# Altium schematic symbol library ZabugorLib.SchLib: 61 symbols
Pins are listed as number, name and electrical type; pins without a type are passive.

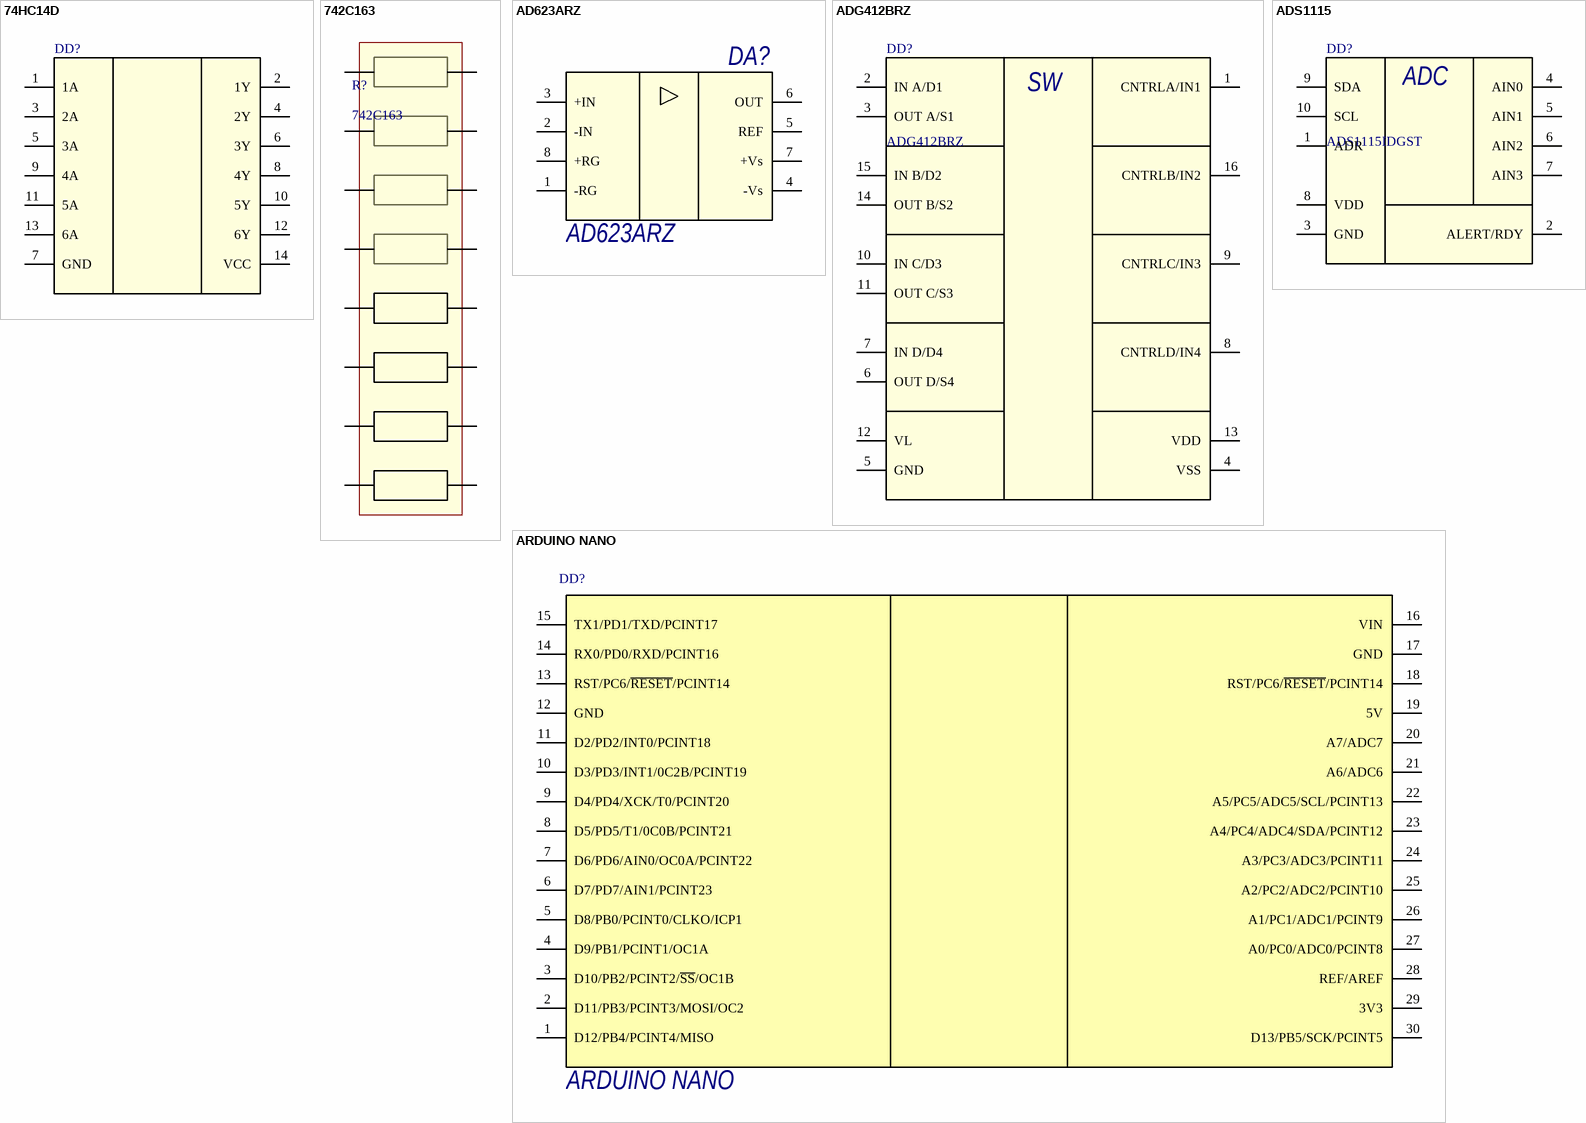
[diagram p0: symbols 74HC14D to ARDUINO NANO]

## 74HC14D
designator DD?
Инвертирующий Триггер Шмитта; Name: 74HC14D
footprint SO14 (SOIC, 14-Leads, Body 8,65x3,90mm, Pitch 1,27mm, IPC Medium Density)
pins: 1 1A (power), 2 1Y (power), 3 2A (power), 4 2Y (power), 5 3A (power), 6 3Y (power), 7 GND (power), 8 4Y (power), 9 4A (power), 10 5Y (power), 11 5A (power), 12 6Y (power), 13 6A (power), 14 VCC (power)

## 742C163
designator R?
Резисторная сборка; Name: *; Value: 742C163
footprint 8xR1206
pins: 1, 2, 3, 4, 5, 6, 7, 8, 9, 10, 11, 12, 13, 14, 15, 16

## AD623ARZ
designator DA?
Инструментальный усилитель ±6В; Name: AD623ARZ
footprint SO8
pins: 1 -RG, 2 -IN, 3 +IN, 4 -Vs, 5 REF, 6 OUT, 7 +Vs, 8 +RG

## ADG412BRZ
designator DD?
CMOS Bilateral Switch; Name: ADG412BRZ
footprint SO-16 (16-Pin Small Outline Integrated Circuit 1.27 mm Pitch, IPC Low Density)
pins: 1 CNTRLA/IN1 (power), 2 IN A/D1 (power), 3 OUT A/S1 (power), 4 VSS (power), 5 GND (power), 6 OUT D/S4 (power), 7 IN D/D4 (power), 8 CNTRLD/IN4 (power), 9 CNTRLC/IN3 (power), 10 IN C/D3 (power), 11 OUT C/S3 (power), 12 VL (power), 13 VDD (power), 14 OUT B/S2 (power), 15 IN B/D2 (power), 16 CNTRLB/IN2 (power)
text: SW

## ADS1115
designator DD?, comment ADS1115IDGST
Ultra-Small, Low-Power, 16-Bit  Analog-to-Digital Converter with Internal Reference; Name: ADS1115IDGST
footprint MSOP-10
pins: 1 ADR (power), 2 ALERT/RDY (power), 3 GND (power), 4 AIN0 (power), 5 AIN1 (power), 6 AIN2 (power), 7 AIN3 (power), 8 VDD (power), 9 SDA (power), 10 SCL (power)
text: ADC

## ARDUINO NANO
designator DD?
Отладочная плата ATmega328; Name: ARDUINO NANO
footprint ARDUINO NANO (Отладочная плата)
pins: 1 D12/PB4/PCINT4/MISO, 2 D11/PB3/PCINT3/MOSI/OC2, 3 D10/PB2/PCINT2/~{SS}/OC1B, 4 D9/PB1/PCINT1/OC1A, 5 D8/PB0/PCINT0/CLKO/ICP1, 6 D7/PD7/AIN1/PCINT23, 7 D6/PD6/AIN0/OC0A/PCINT22, 8 D5/PD5/T1/0C0B/PCINT21, 9 D4/PD4/XCK/T0/PCINT20, 10 D3/PD3/INT1/0C2B/PCINT19, 11 D2/PD2/INT0/PCINT18, 12 GND, 13 RST/PC6/~{RESET}/PCINT14, 14 RX0/PD0/RXD/PCINT16, 15 TX1/PD1/TXD/PCINT17, 16 VIN, 17 GND, 18 RST/PC6/~{RESET}/PCINT14, 19 5V, 20 A7/ADC7, 21 A6/ADC6, 22 A5/PC5/ADC5/SCL/PCINT13, 23 A4/PC4/ADC4/SDA/PCINT12, 24 A3/PC3/ADC3/PCINT11, 25 A2/PC2/ADC2/PCINT10, 26 A1/PC1/ADC1/PCINT9, 27 A0/PC0/ADC0/PCINT8, 28 REF/AREF, 29 3V3, 30 D13/PB5/SCK/PCINT5

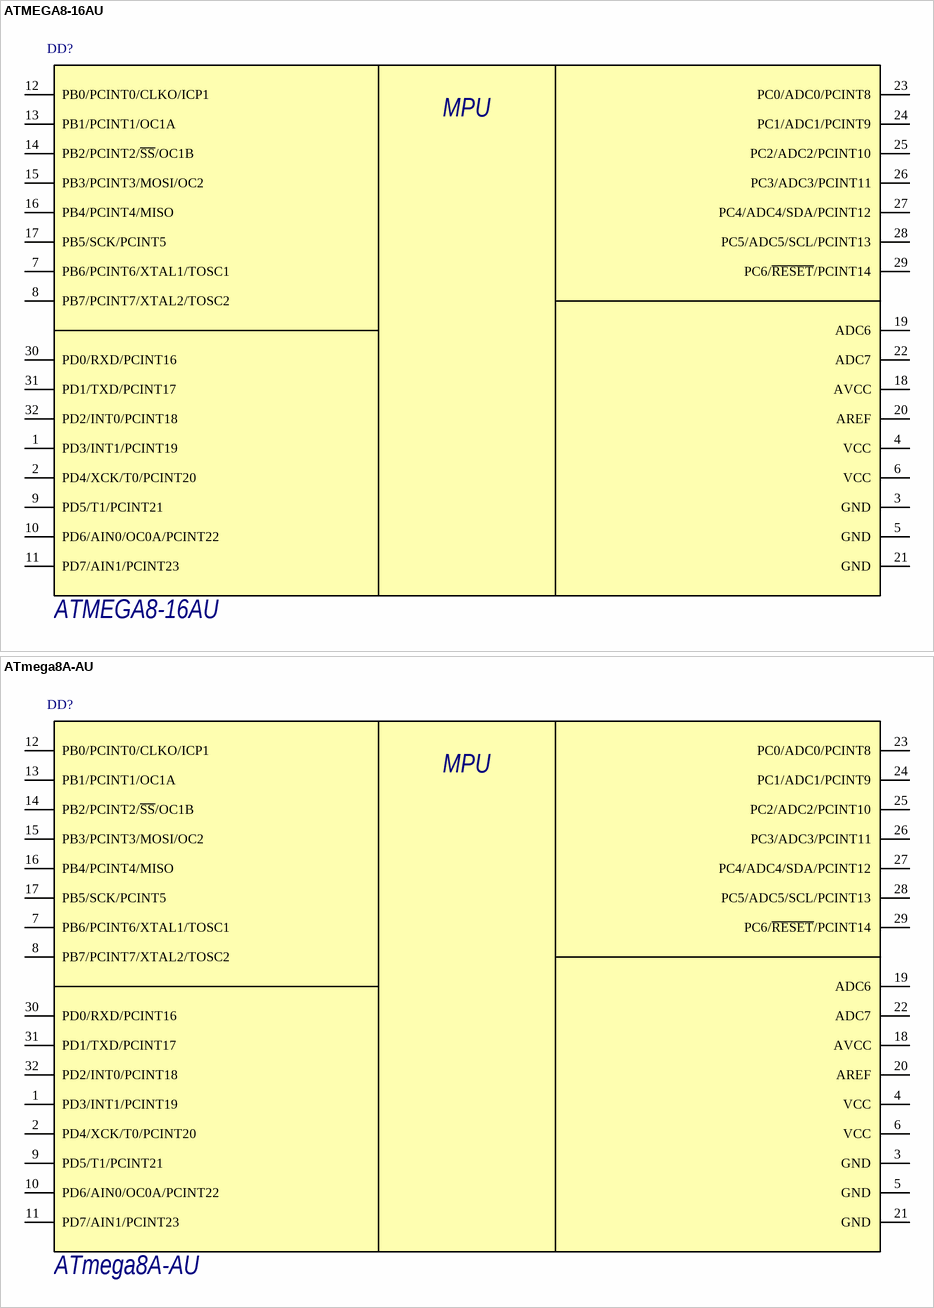
[diagram p1: symbols ATMEGA8-16AU to ATmega8A-AU]

## ATMEGA8-16AU
designator DD?
Микроконтроллер 32-pin; Name: ATMEGA8-16AU
footprint TQFP-32 (Thin QFP, 32-Leads, Body 7x7mm, Pitch 0.8mm, IPC Medium Density)
pins: 1 PD3/INT1/PCINT19, 2 PD4/XCK/T0/PCINT20, 3 GND, 4 VCC, 5 GND, 6 VCC, 7 PB6/PCINT6/XTAL1/TOSC1, 8 PB7/PCINT7/XTAL2/TOSC2, 9 PD5/T1/PCINT21, 10 PD6/AIN0/OC0A/PCINT22, 11 PD7/AIN1/PCINT23, 12 PB0/PCINT0/CLKO/ICP1, 13 PB1/PCINT1/OC1A, 14 PB2/PCINT2/~{SS}/OC1B, 15 PB3/PCINT3/MOSI/OC2, 16 PB4/PCINT4/MISO, 17 PB5/SCK/PCINT5, 18 AVCC, 19 ADC6, 20 AREF, 21 GND, 22 ADC7, 23 PC0/ADC0/PCINT8, 24 PC1/ADC1/PCINT9, 25 PC2/ADC2/PCINT10, 26 PC3/ADC3/PCINT11, 27 PC4/ADC4/SDA/PCINT12, 28 PC5/ADC5/SCL/PCINT13, 29 PC6/~{RESET}/PCINT14, 30 PD0/RXD/PCINT16, 31 PD1/TXD/PCINT17, 32 PD2/INT0/PCINT18
text: MPU

## ATmega8A-AU
designator DD?
Микроконтроллер 8-Бит, AVR, 16МГц, 8КБ Flash; Name: ATmega8A-AU
footprint TQFP-32 (Thin QFP, 32-Leads, Body 7x7mm, Pitch 0.8mm, IPC Medium Density)
pins: 1 PD3/INT1/PCINT19, 2 PD4/XCK/T0/PCINT20, 3 GND, 4 VCC, 5 GND, 6 VCC, 7 PB6/PCINT6/XTAL1/TOSC1, 8 PB7/PCINT7/XTAL2/TOSC2, 9 PD5/T1/PCINT21, 10 PD6/AIN0/OC0A/PCINT22, 11 PD7/AIN1/PCINT23, 12 PB0/PCINT0/CLKO/ICP1, 13 PB1/PCINT1/OC1A, 14 PB2/PCINT2/~{SS}/OC1B, 15 PB3/PCINT3/MOSI/OC2, 16 PB4/PCINT4/MISO, 17 PB5/SCK/PCINT5, 18 AVCC, 19 ADC6, 20 AREF, 21 GND, 22 ADC7, 23 PC0/ADC0/PCINT8, 24 PC1/ADC1/PCINT9, 25 PC2/ADC2/PCINT10, 26 PC3/ADC3/PCINT11, 27 PC4/ADC4/SDA/PCINT12, 28 PC5/ADC5/SCL/PCINT13, 29 PC6/~{RESET}/PCINT14, 30 PD0/RXD/PCINT16, 31 PD1/TXD/PCINT17, 32 PD2/INT0/PCINT18
text: MPU

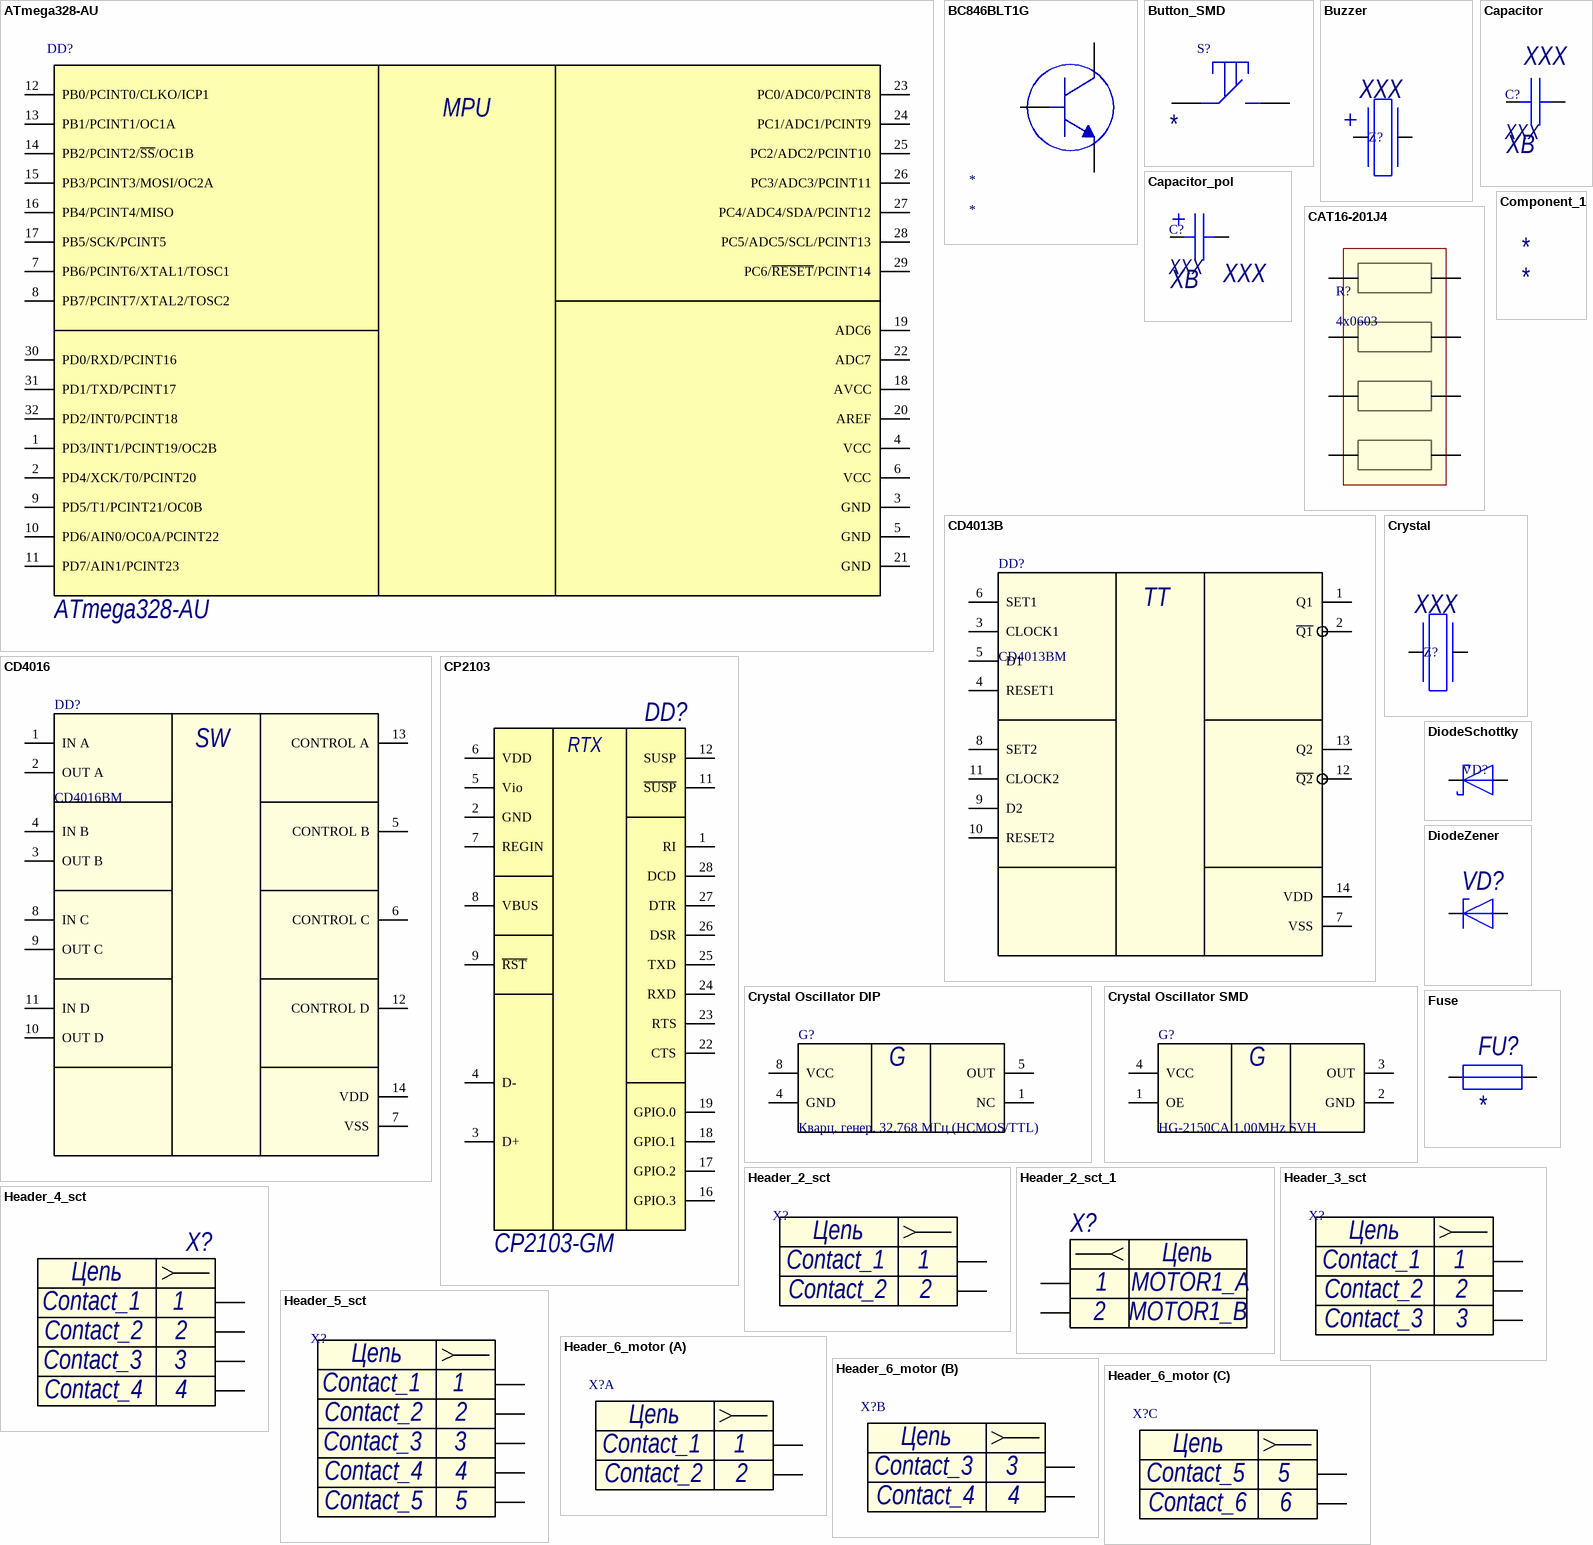
[diagram p2: symbols ATmega328-AU to Header_6_motor]

## ATmega328-AU
designator DD?
Микроконтроллер 8-Бит, AVR, 16МГц, 8КБ Flash; Name: ATmega328-AU
footprint TQFP-32 (Thin QFP, 32-Leads, Body 7x7mm, Pitch 0.8mm, IPC Medium Density)
pins: 1 PD3/INT1/PCINT19/OC2B, 2 PD4/XCK/T0/PCINT20, 3 GND, 4 VCC, 5 GND, 6 VCC, 7 PB6/PCINT6/XTAL1/TOSC1, 8 PB7/PCINT7/XTAL2/TOSC2, 9 PD5/T1/PCINT21/OC0B, 10 PD6/AIN0/OC0A/PCINT22, 11 PD7/AIN1/PCINT23, 12 PB0/PCINT0/CLKO/ICP1, 13 PB1/PCINT1/OC1A, 14 PB2/PCINT2/~{SS}/OC1B, 15 PB3/PCINT3/MOSI/OC2A, 16 PB4/PCINT4/MISO, 17 PB5/SCK/PCINT5, 18 AVCC, 19 ADC6, 20 AREF, 21 GND, 22 ADC7, 23 PC0/ADC0/PCINT8, 24 PC1/ADC1/PCINT9, 25 PC2/ADC2/PCINT10, 26 PC3/ADC3/PCINT11, 27 PC4/ADC4/SDA/PCINT12, 28 PC5/ADC5/SCL/PCINT13, 29 PC6/~{RESET}/PCINT14, 30 PD0/RXD/PCINT16, 31 PD1/TXD/PCINT17, 32 PD2/INT0/PCINT18
text: MPU

## BC846BLT1G
designator *
pins: ?1, ?2, ?3

## Button_SMD
designator S?
Кнопка; Name: *
footprint Button_SMD (Кнопка)
pins: 1, 4

## Buzzer
designator Z?  value XXX
Пьезоизлучатель звуковой
footprint BUZZER (Пьезоизлучатель звуковой)
pins: 1, 2

## Capacitor
designator C?, comment XXX  Voltage: XВ
Конденсатор; Value: XXX
footprint C0402
footprint C0603
footprint C0805
footprint C1206
footprint C1210
footprint C1812
footprint C2220
pins: 1, 2

## Capacitor_pol
designator C?, comment XXX  Voltage: XВ
Конденсатор полярный; Value: XXX
footprint TANTAL CASE D (Конденсатор танталовый SMD)
footprint TANTAL CASE B (Конденсатор электролитический танталовый)
footprint Cap_SMD_radial_polar(10x10.5) (ECAP SMD, 220 мкФ, 35В)
pins: 1, 2

## CAT16-201J4
designator R?, comment 4x0603
Резисторная сборка; Name: *; Value: 4x0603
footprint 4xR0603
pins: 1, 2, 3, 4, 5, 6, 7, 8

## CD4013B
designator DD?, comment CD4013BM
CMOS Dual D-Type Flip-Flop; Name: CD4013BM
footprint TSSOP14
footprint SO14 (SOIC, 14-Leads, Body 8,65x3,90mm, Pitch 1,27mm, IPC Medium Density)
pins: 1 Q1 (power), 2 ~{Q1} (power), 3 CLOCK1 (power), 4 RESET1 (power), 5 D1 (power), 6 SET1 (power), 7 VSS (power), 8 SET2 (power), 9 D2 (power), 10 RESET2 (power), 11 CLOCK2 (power), 12 ~{Q2} (power), 13 Q2 (power), 14 VDD (power)
text: TT

## CD4016
designator DD?, comment CD4016BM
CMOS Bilateral Switch; Name: CD4016BM
footprint TSSOP14
footprint SO14 (SOIC, 14-Leads, Body 8,65x3,90mm, Pitch 1,27mm, IPC Medium Density)
pins: 1 IN A (power), 2 OUT A (power), 3 OUT B (power), 4 IN B (power), 5 CONTROL B (power), 6 CONTROL C (power), 7 VSS (power), 8 IN C (power), 9 OUT C (power), 10 OUT D (power), 11 IN D (power), 12 CONTROL D (power), 13 CONTROL A (power), 14 VDD (power)
text: SW

## Component_1
designator *

## CP2103
designator DD?, comment CP2103-GM
USB-UART преобразователь; Name: CP2103-GM
footprint QFN28 (QFN, 28-Leads, Body 5,0x5,0mm (max), Pitch 0,50mm, IPC Medium Density)
pins: 1 RI, 2 GND, 3 D+, 4 D-, 5 Vio, 6 VDD, 7 REGIN, 8 VBUS, 9 ~{RST}, 11 ~{SUSP}, 12 SUSP, 16 GPIO.3, 17 GPIO.2, 18 GPIO.1, 19 GPIO.0, 22 CTS, 23 RTS, 24 RXD, 25 TXD, 26 DSR, 27 DTR, 28 DCD
text: RTX

## Crystal
designator Z?, comment XXX
Кварцевый резонатор; Value: XXX
footprint HC-49SM (Кварцевый резонатор поверхностного монтажа)
footprint HC-49 (Кварцевый резонатор)
footprint QSMD5.0x3.2x1.0 (Кварцевый резонатор KX-9A 8MHz)
pins: 1, 2

## Crystal Oscillator DIP
designator G?, comment Кварц. генер. 32.768 МГц (HCMOS/TTL)
Кварцевый генератор; Value: 1 МГц; Name: Кварц. генер. 32.768 МГц (HCMOS/TTL)
footprint DIL8 (Кварцевый генератор 12.9х12.9)
pins: 1 NC (power), 4 GND (power), 5 OUT (power), 8 VCC (power)
text: G

## Crystal Oscillator SMD
designator G?, comment HG-2150CA 1.00MHz SVH
Кварцевый генератор; Value: 1 МГц; Name: HG-2150CA 1.00MHz SVH
footprint QSMD7x5 (HG-2150CA 1.00MHz)
pins: 1 OE (power), 2 GND (power), 3 OUT (power), 4 VCC (power)
text: G

## DiodeSchottky
designator VD?
Диод Шоттки
footprint SMA
pins: 1 K, 2 A

## DiodeZener
designator VD?
Стабилитрон
footprint SMA
footprint SOT23-3
pins: 1 K, 2 A

## Fuse
designator FU?, comment MF-MSMF050  (value not drawn)
Предохранитель; Name: MF-MSMF050; Value: *
footprint FUSE812 (Самовосстанавливающийся предохранитель)
footprint MF-R500 (Самовосстанавливающийся предохранитель)
footprint MF-R300 (Самовосстанавливающийся предохранитель)
pins: 1, 2

## Header_2_sct
designator X?
Разъем - 2 конт. розетка; Contact_1: Contact_1; Contact_2: Contact_2
footprint DT-128V-2
footprint MW-2M
footprint 2HOLE_PETELKA
footprint 2HOLE_2.5
pins: 1, 2
text: Цепь

## Header_2_sct_1
designator X?
Разъем - 2 конт. розетка; Contact_1: MOTOR1_A; Contact_2: MOTOR1_B
footprint DT-128V-2
footprint MW-2M
footprint 2HOLE_PETELKA
footprint 2HOLE_2.5
pins: 1, 2
text: Цепь

## Header_3_sct
designator X?
Разъем - 2 конт. розетка; Contact_1: Contact_1; Contact_2: Contact_2; Contact_3: Contact_3
footprint PLS2-3
footprint DT-128V-3
footprint PLS2-3holes
pins: 1, 2, 3
text: Цепь

## Header_4_sct
designator X?
Разъем - 4 конт. розетка; Contact_1: Contact_1; Contact_2: Contact_2; Contact_3: Contact_3; Contact_4: Contact_4
footprint USBB-J1
footprint MW-4M
footprint PLS-4
footprint PLS-4holes
pins: 1, 2, 3, 4
text: Цепь

## Header_5_sct
designator X?
Разъем - 4 конт. розетка; Contact_1: Contact_1; Contact_2: Contact_2; Contact_3: Contact_3; Contact_4: Contact_4; Contact_5: Contact_5
footprint PLS-5
footprint USB-B Micro
footprint MW-5M
pins: 1, 2, 3, 4, 5
text: Цепь

## Header_6_motor
designator X?
POWER; Contact_5: Contact_5; Contact_6: Contact_6; Contact_4: Contact_4; Contact_3: Contact_3; Contact_2: Contact_2; Contact_1: Contact_1
footprint DT-128V-6
part A pins: 1, 2
part B pins: 3, 4
part C pins: 5, 6
part A text: Цепь
part B text: Цепь
part C text: Цепь

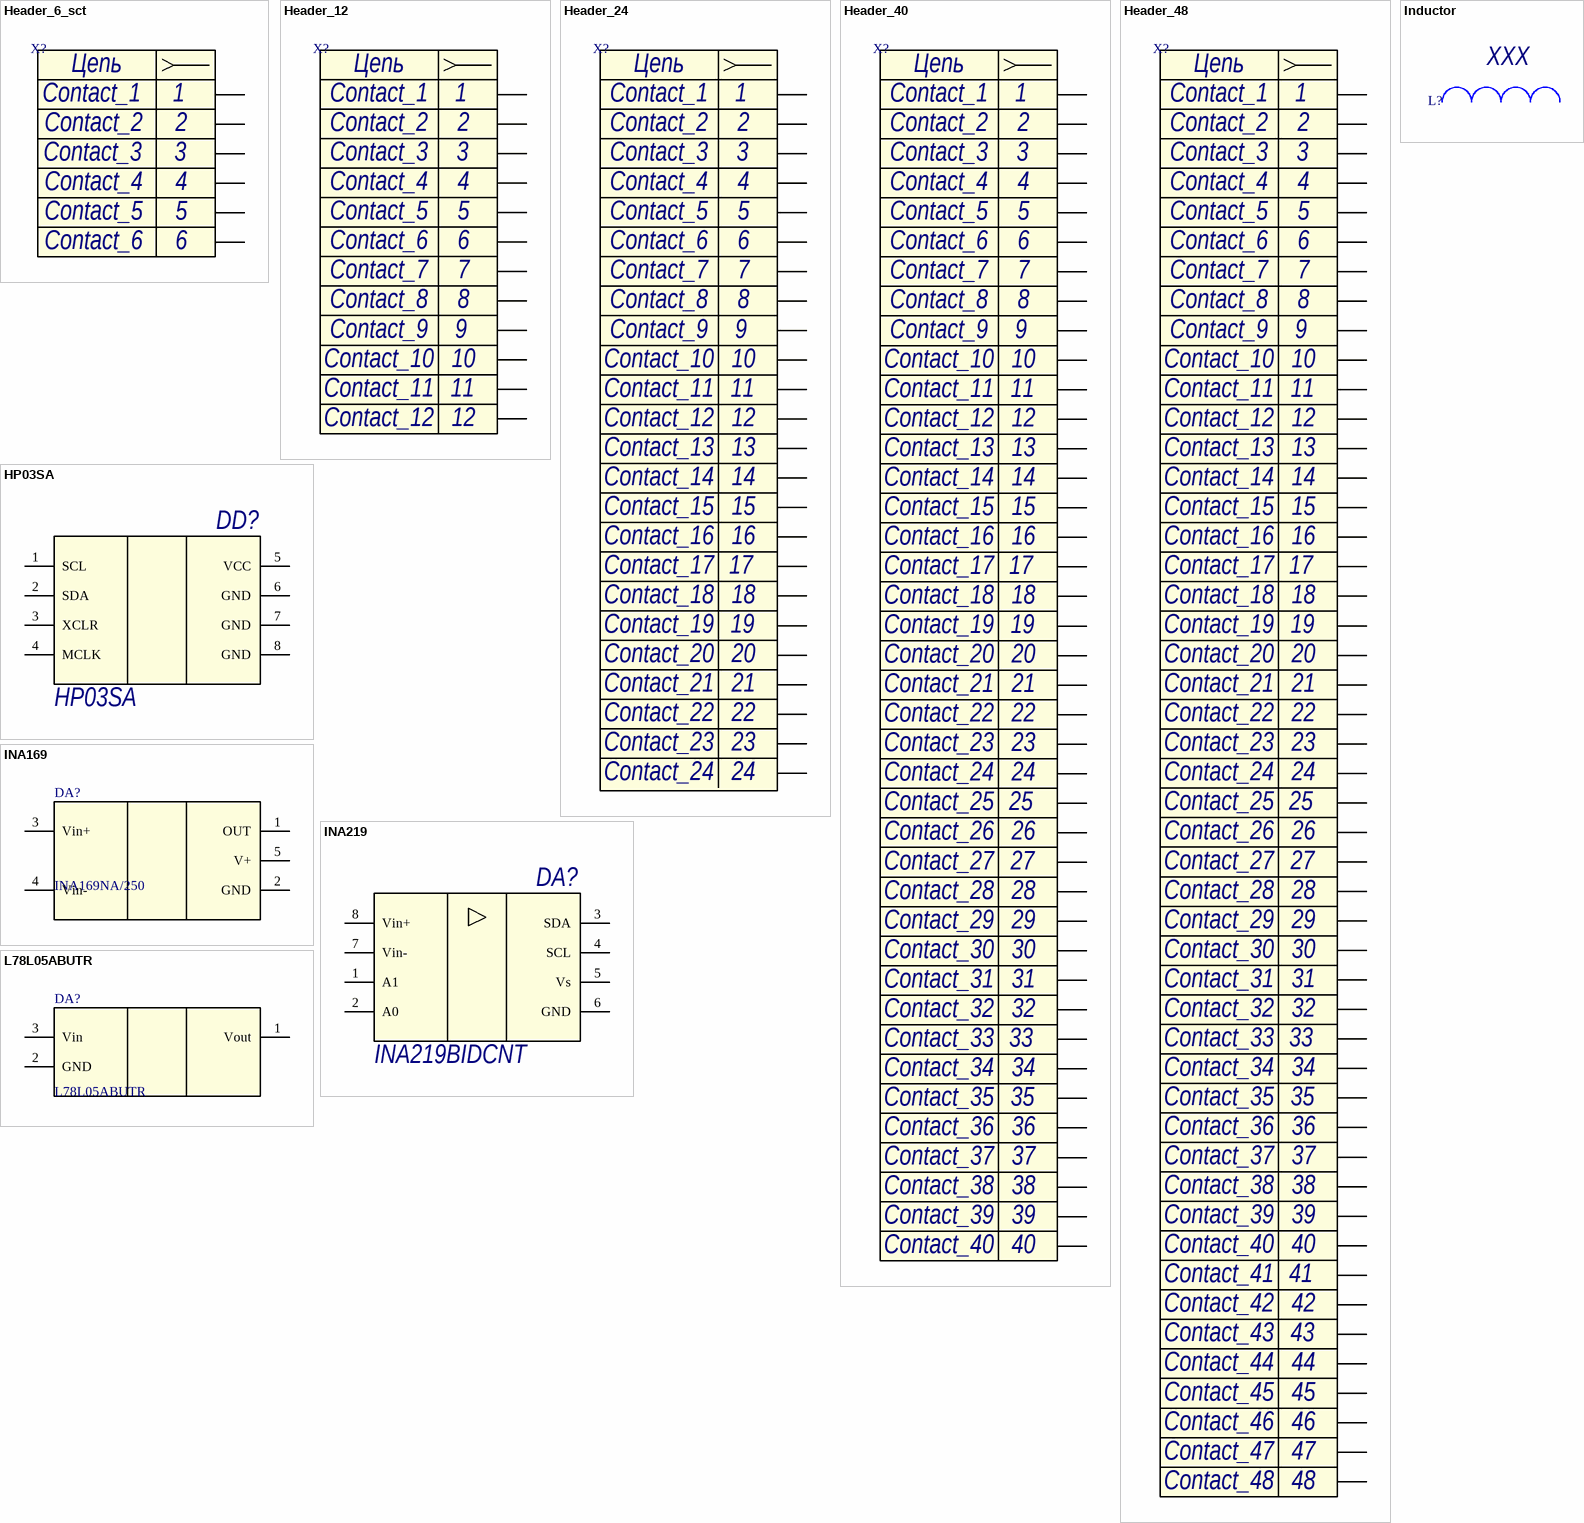
[diagram p3: symbols Header_6_sct to L78L05ABUTR]

## Header_6_sct
designator X?
Разъем - 5 конт. розетка; Contact_1: Contact_1; Contact_2: Contact_2; Contact_3: Contact_3; Contact_4: Contact_4; Contact_5: Contact_5; Contact_6: Contact_6
footprint CWF-6R
footprint CWF-6
footprint PLS-6
footprint PSP_ANTENNA
footprint PLS2-6 (Разъем для программатора ISP)
pins: 1, 2, 3, 4, 5, 6
text: Цепь

## Header_12
designator X?
Разъем - 5 конт. розетка; Contact_1: Contact_1; Contact_2: Contact_2; Contact_3: Contact_3; Contact_5: Contact_5; Contact_7: Contact_7; Contact_6: Contact_6; Contact_8: Contact_8; Contact_9: Contact_9; Contact_10: Contact_10; Contact_11: Contact_11; Contact_12: Contact_12; Contact_4: Contact_4
footprint PLS-12
pins: 1, 2, 3, 4, 5, 6, 7, 8, 9, 10, 11, 12
text: Цепь

## Header_24
designator X?
Разъем - 5 конт. розетка; Contact_1: Contact_1; Contact_2: Contact_2; Contact_3: Contact_3; Contact_5: Contact_5; Contact_7: Contact_7; Contact_6: Contact_6; Contact_8: Contact_8; Contact_9: Contact_9; Contact_10: Contact_10; Contact_11: Contact_11; Contact_12: Contact_12; Contact_13: Contact_13; Contact_14: Contact_14; Contact_15: Contact_15; Contact_16: Contact_16; Contact_17: Contact_17; Contact_18: Contact_18; Contact_19: Contact_19; Contact_20: Contact_20; Contact_21: Contact_21; Contact_22: Contact_22; Contact_23: Contact_23; Contact_24: Contact_24; Contact_25: Contact_25; Contact_26: Contact_26; Contact_27: Contact_27; Contact_28: Contact_28; Contact_29: Contact_29; Contact_30: Contact_30; Contact_31: Contact_31; Contact_32: Contact_32; Contact_33: Contact_33; Contact_34: Contact_34; Contact_35: Contact_35; Contact_36: Contact_36; Contact_37: Contact_37; Contact_38: Contact_38; Contact_39: Contact_39; Contact_40: Contact_40; Contact_41: Contact_41; Contact_42: Contact_42; Contact_43: Contact_43; Contact_44: Contact_44; Contact_45: Contact_45; Contact_46: Contact_46; Contact_47: Contact_47; Contact_48: Contact_48; Contact_4: Contact_4
footprint PLS-24
pins: 1, 2, 3, 4, 5, 6, 7, 8, 9, 10, 11, 12, 13, 14, 15, 16, 17, 18, 19, 20, 21, 22, 23, 24
text: Цепь

## Header_40
designator X?
Разъем - 5 конт. розетка; Contact_1: Contact_1; Contact_2: Contact_2; Contact_3: Contact_3; Contact_5: Contact_5; Contact_7: Contact_7; Contact_6: Contact_6; Contact_8: Contact_8; Contact_9: Contact_9; Contact_10: Contact_10; Contact_11: Contact_11; Contact_12: Contact_12; Contact_13: Contact_13; Contact_14: Contact_14; Contact_15: Contact_15; Contact_16: Contact_16; Contact_17: Contact_17; Contact_18: Contact_18; Contact_19: Contact_19; Contact_20: Contact_20; Contact_21: Contact_21; Contact_22: Contact_22; Contact_23: Contact_23; Contact_24: Contact_24; Contact_25: Contact_25; Contact_26: Contact_26; Contact_27: Contact_27; Contact_28: Contact_28; Contact_29: Contact_29; Contact_30: Contact_30; Contact_31: Contact_31; Contact_32: Contact_32; Contact_33: Contact_33; Contact_34: Contact_34; Contact_35: Contact_35; Contact_36: Contact_36; Contact_37: Contact_37; Contact_38: Contact_38; Contact_39: Contact_39; Contact_40: Contact_40; Contact_4: Contact_4
footprint PLS-40
footprint PBS-40
pins: 1, 2, 3, 4, 5, 6, 7, 8, 9, 10, 11, 12, 13, 14, 15, 16, 17, 18, 19, 20, 21, 22, 23, 24, 25, 26, 27, 28, 29, 30, 31, 32, 33, 34, 35, 36, 37, 38, 39, 40
text: Цепь

## Header_48
designator X?
Разъем - 5 конт. розетка; Contact_1: Contact_1; Contact_2: Contact_2; Contact_3: Contact_3; Contact_5: Contact_5; Contact_7: Contact_7; Contact_6: Contact_6; Contact_8: Contact_8; Contact_9: Contact_9; Contact_10: Contact_10; Contact_11: Contact_11; Contact_12: Contact_12; Contact_13: Contact_13; Contact_14: Contact_14; Contact_15: Contact_15; Contact_16: Contact_16; Contact_17: Contact_17; Contact_18: Contact_18; Contact_19: Contact_19; Contact_20: Contact_20; Contact_21: Contact_21; Contact_22: Contact_22; Contact_23: Contact_23; Contact_24: Contact_24; Contact_25: Contact_25; Contact_26: Contact_26; Contact_27: Contact_27; Contact_28: Contact_28; Contact_29: Contact_29; Contact_30: Contact_30; Contact_31: Contact_31; Contact_32: Contact_32; Contact_33: Contact_33; Contact_34: Contact_34; Contact_35: Contact_35; Contact_36: Contact_36; Contact_37: Contact_37; Contact_38: Contact_38; Contact_39: Contact_39; Contact_40: Contact_40; Contact_41: Contact_41; Contact_42: Contact_42; Contact_43: Contact_43; Contact_44: Contact_44; Contact_45: Contact_45; Contact_46: Contact_46; Contact_47: Contact_47; Contact_48: Contact_48; Contact_4: Contact_4
footprint PLS-48
pins: 1, 2, 3, 4, 5, 6, 7, 8, 9, 10, 11, 12, 13, 14, 15, 16, 17, 18, 19, 20, 21, 22, 23, 24, 25, 26, 27, 28, 29, 30, 31, 32, 33, 34, 35, 36, 37, 38, 39, 40, 41, 42, 43, 44, 45, 46, 47, 48
text: Цепь

## HP03SA
designator DD?
Pressure module; Name: HP03SA
footprint HP03AS (Integrated pressure sensor)
pins: 1 SCL, 2 SDA, 3 XCLR, 4 MCLK, 5 VCC, 6 GND, 7 GND, 8 GND

## INA169
designator DA?, comment INA169NA/250
Измерительный датчик тока; Name: INA169NA/250
footprint SOT23-5
pins: 1 OUT (power), 2 GND (power), 3 Vin+ (power), 4 Vin- (power), 5 V+ (power)

## INA219
designator DA?, comment INA219BIDCNT
Токочувствительный усилитель; Name: INA219BIDCNT
footprint SO8
pins: 1 A1, 2 A0, 3 SDA, 4 SCL, 5 Vs, 6 GND, 7 Vin-, 8 Vin+

## Inductor
designator L?, comment XXX
Катушка индуктивности; Value: XXX
footprint IND_B82464G4223M (22 мкГн, 2.25 А, 10х10, Катушка индуктивности SMD)
footprint L0603
footprint SDR0604 (SMD Power Inductors)
footprint SRR1208 (SMD Power Inductors)
pins: 1, 2

## L78L05ABUTR
designator DA?
Cтабилизатор напряжения (+5В; 0.1А), 4%, (-40...+125C); Name: L78L05ABUTR
footprint SOT-89-3
pins: 1 Vout (power), 2 GND (power), 3 Vin (power)

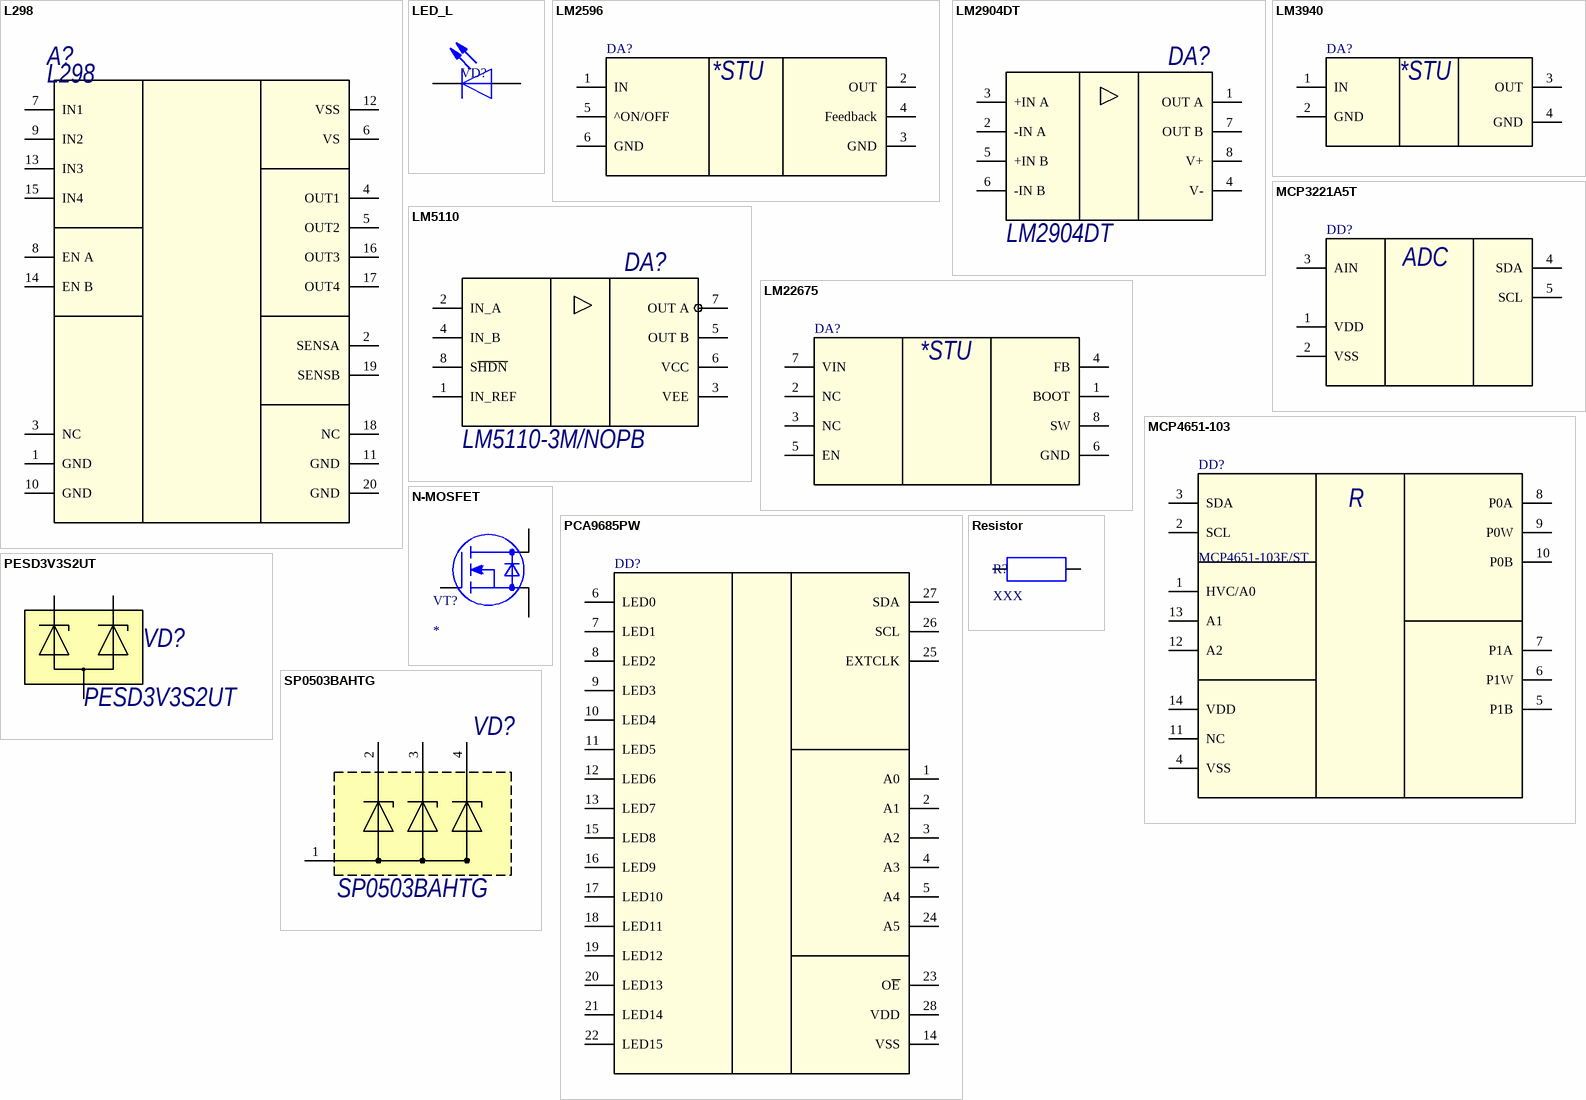
[diagram p4: symbols L298 to SP0503BAHTG]

## L298
designator A?
FULL BRIDGE DC MOTOR DRIVER; Name: L298
footprint POWERSO20_N (SOP, 20-Leads, Body 15.9x11mm, Pitch 1.27mm, IPC Medium Density)
pins: 1 GND, 2 SENSA, 3 NC, 4 OUT1, 5 OUT2, 6 VS, 7 IN1, 8 EN A, 9 IN2, 10 GND, 11 GND, 12 VSS, 13 IN3, 14 EN B, 15 IN4, 16 OUT3, 17 OUT4, 18 NC, 19 SENSB, 20 GND

## LED_L
designator VD?
Светодиод
footprint D0603
footprint D0805 (Chip Resistor, 2-Leads, Body 2,10x1,30mm, IPC Medium Density)
pins: 1 K, 2 A

## LM2596
designator DA?
3-A Step-Down Voltage Regulator
footprint TO-263
pins: 1 IN (power), 2 OUT (power), 3 GND (power), 4 Feedback (power), 5 ^ON/OFF (power), 6 GND (power)
text: *STU

## LM2904DT
designator DA?
Операционный усилитель ±6В; Name: LM2904DT
footprint SO8
pins: 1 OUT A, 2 -IN A, 3 +IN A, 4 V-, 5 +IN B, 6 -IN B, 7 OUT B, 8 V+

## LM3940
designator DA?
Low-Dropout Regulator for 5-V to 3.3-V Conversion
footprint TO-263-3
pins: 1 IN (power), 2 GND (power), 3 OUT (power), 4 GND (power)
text: *STU

## LM5110
designator DA?, comment LM5110-3M/NOPB
Драйвер затвора; Name: LM5110-3M/NOPB
footprint SO8
pins: 1 IN_REF, 2 IN_A, 3 VEE, 4 IN_B, 5 OUT B, 6 VCC, 7 OUT A, 8 S~{HDN}

## LM22675
designator DA?
3-A Step-Down Voltage Regulator
footprint SO PowerPAD-8
pins: 1 BOOT (power), 2 NC (power), 3 NC (power), 4 FB (power), 5 EN (power), 6 GND (power), 7 VIN (power), 8 SW (power)
text: *STU

## MCP3221A5T
designator DD?
Low-Dropout Regulator for 5-V to 3.3-V Conversion; Name: MCP3221A5T-I/OT
footprint SOT23-5
pins: 1 VDD (power), 2 VSS (power), 3 AIN (power), 4 SDA (power), 5 SCL (power)
text: ADC

## MCP4651-103
designator DD?, comment MCP4651-103E/ST
Dual I2C Digital Potentiometer; Name: MCP4651-103E/ST
footprint TSSOP14
pins: 1 HVC/A0 (power), 2 SCL (power), 3 SDA (power), 4 VSS (power), 5 P1B (power), 6 P1W (power), 7 P1A (power), 8 P0A (power), 9 P0W (power), 10 P0B (power), 11 NC (power), 12 A2 (power), 13 A1 (power), 14 VDD (power)
text: R

## N-MOSFET
designator VT?
N-MOSFET; Name: *; Vgs: *; Vds: *; Ids: *
footprint SOT23-3_A
footprint SOT23-3_H
footprint D2PAK
footprint DPAK
pins: 1 G, 2 S, 3 D

## PCA9685PW
designator DD?
Драйвер светодиода, 16 выходов; Name: PCA9685PW
footprint TSSOP28
pins: 1 A0 (power), 2 A1 (power), 3 A2 (power), 4 A3 (power), 5 A4 (power), 6 LED0 (power), 7 LED1 (power), 8 LED2 (power), 9 LED3 (power), 10 LED4 (power), 11 LED5 (power), 12 LED6 (power), 13 LED7 (power), 14 VSS (power), 15 LED8 (power), 16 LED9 (power), 17 LED10 (power), 18 LED11 (power), 19 LED12 (power), 20 LED13 (power), 21 LED14 (power), 22 LED15 (power), 23 O~{E} (power), 24 A5 (power), 25 EXTCLK (power), 26 SCL (power), 27 SDA (power), 28 VDD (power)

## PESD3V3S2UT
designator VD?
Сборка TVS-диодов; Name: PESD3V3S2UT
footprint SOT23-3
pins: 1, 2, 3

## Resistor
designator R?, comment XXX
Резистор; Value: XXX
footprint R0603
footprint R0805 (Chip Resistor, 2-Leads, Body 2,10x1,30mm, IPC Medium Density)
footprint R1210
footprint R1812
footprint R2512
footprint PEREMUCHKA
pins: 1, 2

## SP0503BAHTG
designator VD?
Защитный ESD диод; Name: SP0503BAHTG
footprint SOT143-4
pins: 1 GND, 2, 3, 4

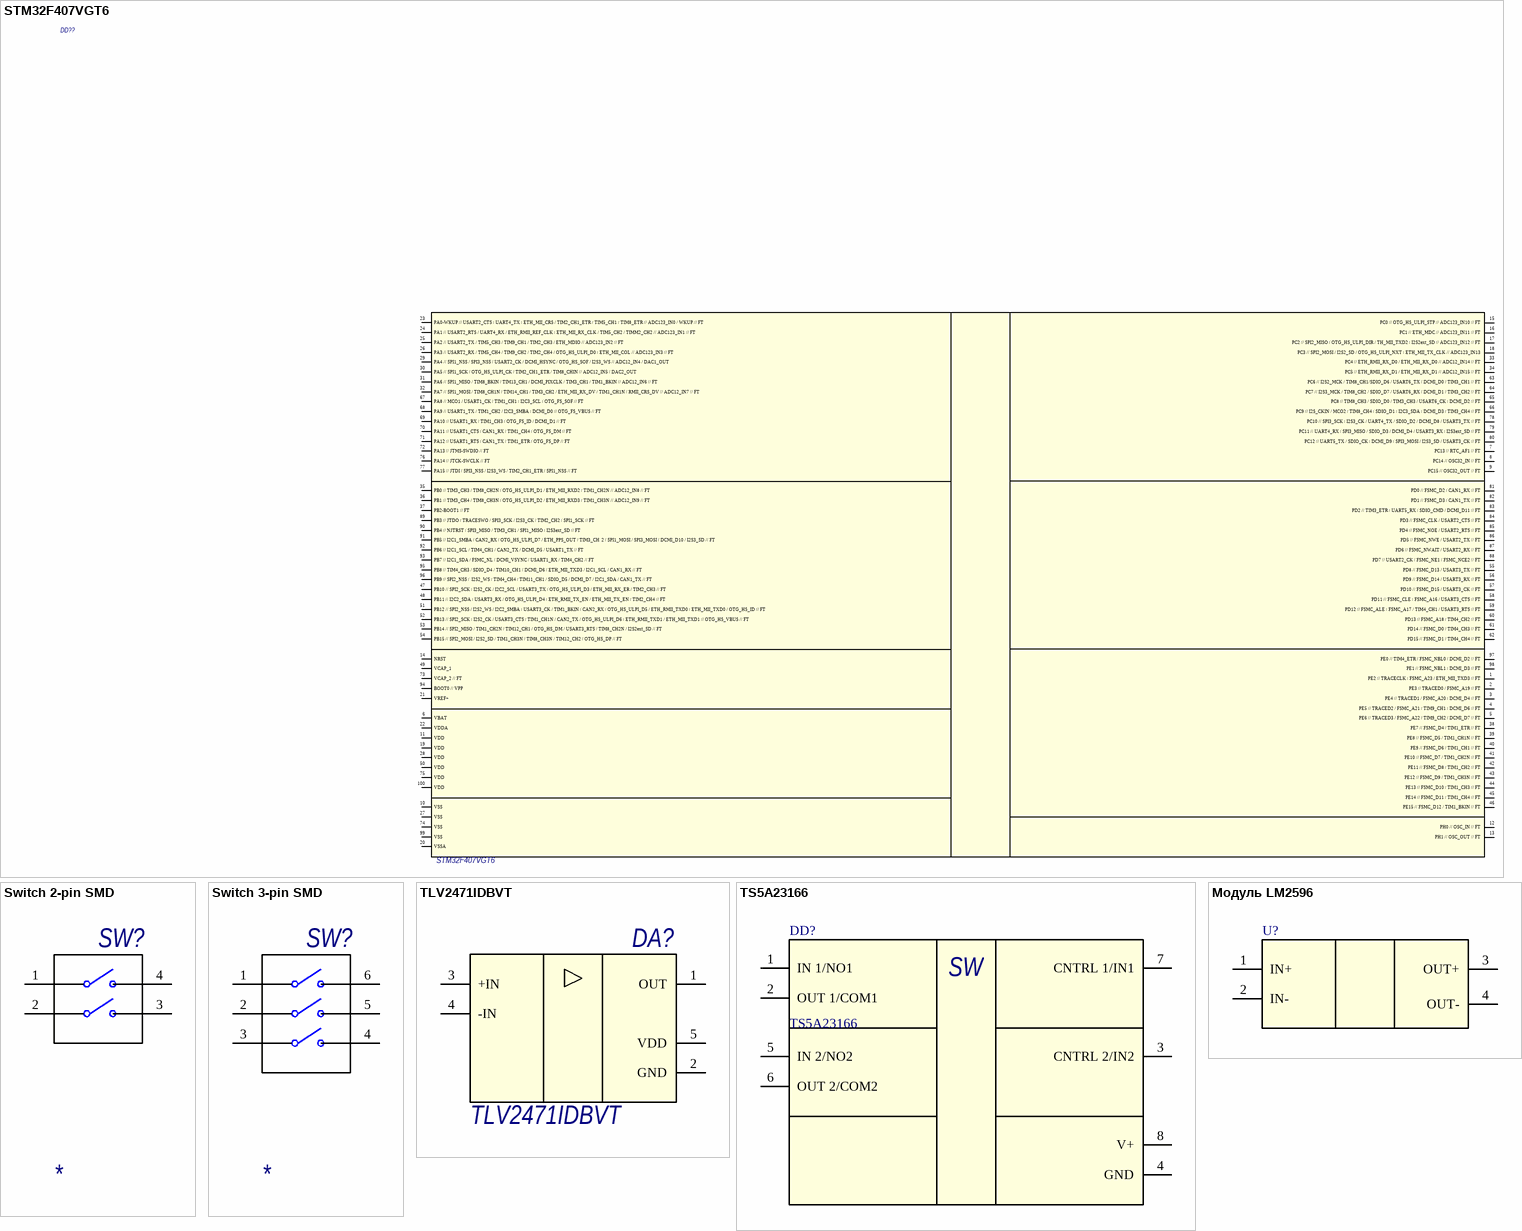
[diagram p5: symbols STM32F407VGT6 to Модуль LM2596]

## STM32F407VGT6
designator DD??
Микроконтроллер STM32F407VGT6
footprint LQPF100
pins: 1 PE2 // TRACECLK / FSMC_A23 / ETH_MII_TXD3 // FT, 2 PE3 // TRACED0 / FSMC_A19 // FT, 3 PE4 // TRACED1 / FSMC_A20 / DCMI_D4 // FT, 4 PE5 // TRACED2 / FSMC_A21 / TIM9_CH1 / DCMI_D6 // FT, 5 PE6 // TRACED3 / FSMC_A22 / TIM9_CH2 / DCMI_D7 // FT, 6 VBAT, 7 PC13 // RTC_AF1 // FT, 8 PC14 // OSC32_IN // FT, 9 PC15 // OSC32_OUT // FT, 10 VSS, 11 VDD, 12 PH0 // OSC_IN // FT, 13 PH1 // OSC_OUT // FT, 14 NRST, 15 PC0 // OTG_HS_ULPI_STP // ADC123_IN10 // FT, 16 PC1 // ETH_MDC // ADC123_IN11 // FT, 17 PC2 // SPI2_MISO / OTG_HS_ULPI_DIR / TH_MII_TXD2 / I2S2ext_SD // ADC123_IN12 // FT, 18 PC3 // SPI2_MOSI / I2S2_SD / OTG_HS_ULPI_NXT / ETH_MII_TX_CLK // ADC123_IN13, 19 VDD, 20 VSSA, 21 VREF+, 22 VDDA, 23 PA0-WKUP // USART2_CTS / UART4_TX / ETH_MII_CRS / TIM2_CH1_ETR / TIM5_CH1 / TIM8_ETR // ADC123_IN0 / WKUP // FT , 24 PA1 // USART2_RTS / UART4_RX / ETH_RMII_REF_CLK / ETH_MII_RX_CLK / TIM5_CH2 / TIMM2_CH2 // ADC123_IN1 // FT, 25 PA2 // USART2_TX / TIM5_CH3 / TIM9_CH1 / TIM2_CH3 / ETH_MDIO // ADC123_IN2 // FT, 26 PA3 // USART2_RX / TIM5_CH4 / TIM9_CH2 / TIM2_CH4 / OTG_HS_ULPI_D0 / ETH_MII_COL // ADC123_IN3 // FT, 27 VSS, 28 VDD, 29 PA4 // SPI1_NSS / SPI3_NSS / USART2_CK / DCMI_HSYNC / OTG_HS_SOF / I2S3_WS // ADC12_IN4 / DAC1_OUT , 30 PA5 // SPI1_SCK / OTG_HS_ULPI_CK / TIM2_CH1_ETR / TIM8_CHIN // ADC12_IN5 / DAC2_OUT, 31 PA6 // SPI1_MISO / TIM8_BKIN / TIM13_CH1 / DCMI_PIXCLK / TIM3_CH1 / TIM1_BKIN // ADC12_IN6 // FT, 32 PA7 // SPI1_MOSI / TIM8_CH1N / TIM14_CH1 / TIM3_CH2 / ETH_MII_RX_DV / TIM1_CH1N / RMII_CRS_DV // ADC12_IN7 // FT, 33 PC4 // ETH_RMII_RX_D0 / ETH_MII_RX_D0 // ADC12_IN14 // FT, 34 PC5 // ETH_RMII_RX_D1 / ETH_MII_RX_D1 // ADC12_IN15 // FT, 35 PB0 // TIM3_CH3 / TIM8_CH2N / OTG_HS_ULPI_D1 / ETH_MII_RXD2 / TIM1_CH2N // ADC12_IN8 // FT, 36 PB1 // TIM3_CH4 / TIM8_CH3N / OTG_HS_ULPI_D2 / ETH_MII_RXD3 / TIM1_CH3N // ADC12_IN9 // FT, 37 PB2-BOOT1 // FT, 38 PE7 // FSMC_D4 / TIM1_ETR // FT, 39 PE8 // FSMC_D5 / TIM1_CH1N // FT, 40 PE9 // FSMC_D6 / TIM1_CH1 // FT, 41 PE10 // FSMC_D7 / TIM1_CH2N // FT, 42 PE11 // FSMC_D8 / TIM1_CH2 // FT, 43 PE12 // FSMC_D9 / TIM1_CH3N // FT, 44 PE13 // FSMC_D10 / TIM1_CH3 // FT, 45 PE14 // FSMC_D11 / TIM1_CH4 // FT, 46 PE15 // FSMC_D12 / TIM1_BKIN // FT, 47 PB10 // SPI2_SCK / I2S2_CK / I2C2_SCL / USART3_TX / OTG_HS_ULPI_D3 / ETH_MII_RX_ER / TIM2_CH3 // FT, 48 PB11 // I2C2_SDA / USART3_RX / OTG_HS_ULPI_D4 / ETH_RMII_TX_EN / ETH_MII_TX_EN / TIM2_CH4 // FT, 49 VCAP_1, 50 VDD, 51 PB12 // SPI2_NSS / I2S2_WS / I2C2_SMBA / USART3_CK / TIM1_BKIN / CAN2_RX / OTG_HS_ULPI_D5 / ETH_RMII_TXD0 / ETH_MII_TXD0 / OTG_HS_ID // FT, 52 PB13 // SPI2_SCK / I2S2_CK / USART3_CTS / TIM1_CH1N / CAN2_TX / OTG_HS_ULPI_D6 / ETH_RMII_TXD1 / ETH_MII_TXD1 // OTG_HS_VBUS // FT, 53 PB14 // SPI2_MISO / TIM1_CH2N / TIM12_CH1 / OTG_HS_DM / USART3_RTS / TIM8_CH2N / I2S2ext_SD // FT, 54 PB15 // SPI2_MOSI / I2S2_SD / TIM1_CH3N / TIM8_CH3N / TIM12_CH2 / OTG_HS_DP // FT, 55 PD8 // FSMC_D13 / USART3_TX // FT, 56 PD9 // FSMC_D14 / USART3_RX // FT, 57 PD10 // FSMC_D15 / USART3_CK // FT, 58 PD11 // FSMC_CLE / FSMC_A16 / USART3_CTS // FT, 59 PD12 // FSMC_ALE / FSMC_A17 / TIM4_CH1 / USART3_RTS // FT, 60 PD13 // FSMC_A18 / TIM4_CH2 // FT, 61 PD14 // FSMC_D0 / TIM4_CH3 // FT, 62 PD15 // FSMC_D1 / TIM4_CH4 // FT, 63 PC6 // I2S2_MCK / TIM8_CH1/SDIO_D6 / USART6_TX / DCMI_D0 / TIM3_CH1 // FT, 64 PC7 // I2S3_MCK / TIM8_CH2 / SDIO_D7 / USART6_RX / DCMI_D1 / TIM3_CH2 // FT, 65 PC8 // TIM8_CH3 / SDIO_D0 / TIM3_CH3 / USART6_CK / DCMI_D2 // FT, 66 PC9 // I2S_CKIN / MCO2 / TIM8_CH4 / SDIO_D1 / I2C3_SDA / DCMI_D3 / TIM3_CH4 // FT, 67 PA8 // MCO1 / USART1_CK / TIM1_CH1 / I2C3_SCL / OTG_FS_SOF // FT, 68 PA9 // USART1_TX / TIM1_CH2 / I2C3_SMBA / DCMI_D0 // OTG_FS_VBUS // FT , 69 PA10 // USART1_RX / TIM1_CH3 / OTG_FS_ID / DCMI_D1 // FT, 70 PA11 // USART1_CTS / CAN1_RX / TIM1_CH4 / OTG_FS_DM // FT, 71 PA12 // USART1_RTS / CAN1_TX / TIM1_ETR / OTG_FS_DP // FT, 72 PA13 // JTMS-SWDIO // FT, 73 VCAP_2 // FT, 74 VSS, 75 VDD, 76 PA14 // JTCK-SWCLK // FT, 77 PA15 // JTDI / SPI3_NSS / I2S3_WS / TIM2_CH1_ETR / SPI1_NSS // FT, 78 PC10 // SPI3_SCK / I2S3_CK / UART4_TX / SDIO_D2 / DCMI_D8 / USART3_TX // FT, 79 PC11 // UART4_RX / SPI3_MISO / SDIO_D3 / DCMI_D4 / USART3_RX / I2S3ext_SD // FT, 80 PC12 // UART5_TX / SDIO_CK / DCMI_D9 / SPI3_MOSI / I2S3_SD / USART3_CK // FT, 81 PD0 // FSMC_D2 / CAN1_RX // FT, 82 PD1 // FSMC_D3 / CAN1_TX // FT, 83 PD2 // TIM3_ETR / UART5_RX / SDIO_CMD / DCMI_D11 // FT, 84 PD3 // FSMC_CLK / USART2_CTS // FT, 85 PD4 // FSMC_NOE / USART2_RTS // FT, 86 PD5 // FSMC_NWE / USART2_TX // FT, 87 PD6 // FSMC_NWAIT / USART2_RX // FT, 88 PD7 // USART2_CK / FSMC_NE1 / FSMC_NCE2 // FT, 89 PB3 // JTDO / TRACESWO / SPI3_SCK / I2S3_CK / TIM2_CH2 / SPI1_SCK // FT, 90 PB4 // NJTRST / SPI3_MISO / TIM3_CH1 / SPI1_MISO / I2S3ext_SD // FT, 91 PB5 // I2C1_SMBA / CAN2_RX / OTG_HS_ULPI_D7 / ETH_PPS_OUT / TIM3_CH  2 / SPI1_MOSI / SPI3_MOSI / DCMI_D10 / I2S3_SD // FT, 92 PB6 // I2C1_SCL / TIM4_CH1 / CAN2_TX / DCMI_D5 / USART1_TX // FT, 93 PB7 // I2C1_SDA / FSMC_NL / DCMI_VSYNC / USART1_RX / TIM4_CH2 // FT, 94 BOOT0 // VPP, 95 PB8 // TIM4_CH3 / SDIO_D4 / TIM10_CH1 / DCMI_D6 / ETH_MII_TXD3 / I2C1_SCL / CAN1_RX // FT, 96 PB9 // SPI2_NSS /  I2S2_WS / TIM4_CH4 / TIM11_CH1 / SDIO_D5 / DCMI_D7 / I2C1_SDA / CAN1_TX // FT, 97 PE0 // TIM4_ETR / FSMC_NBL0 / DCMI_D2 // FT, 98 PE1 // FSMC_NBL1 / DCMI_D3 // FT, 99 VSS, 100 VDD
1 alternate drawing of the same symbol

## Switch 2-pin SMD
designator SW?
Переключатель адреса; Name: *
footprint 2PAD_ADR (Перемычка для выбора адреса)
pins: 1, 2, 3, 4

## Switch 3-pin SMD
designator SW?
DIP переключатель адреса; Name: *
footprint DIP3
footprint 3PAD_ADR (Перемычка для выбора адреса)
pins: 1, 2, 3, 4, 5, 6

## TLV2471IDBVT
designator DA?
Операционный усилитель ±6В; Name: TLV2471IDBVT
footprint SOT23-5
pins: 1 OUT, 2 GND, 3 +IN, 4 -IN, 5 VDD

## TS5A23166
designator DD?
Dual-SPST Analog Switch; Name: TS5A23166
footprint VSSOP8
pins: 1 IN 1/NO1 (power), 2 OUT 1/COM1 (power), 3 CNTRL 2/IN2 (power), 4 GND (power), 5 IN 2/NO2 (power), 6 OUT 2/COM2 (power), 7 CNTRL 1/IN1 (power), 8 V+ (power)
text: SW

## Модуль LM2596
designator U?
Low-Dropout Regulator for 5-V to 3.3-V Conversion
footprint module LM2596
pins: 1 IN+ (power), 2 IN- (power), 3 OUT+ (power), 4 OUT- (power)